# EAGLE library part ATTINY45 (library 01_fab)
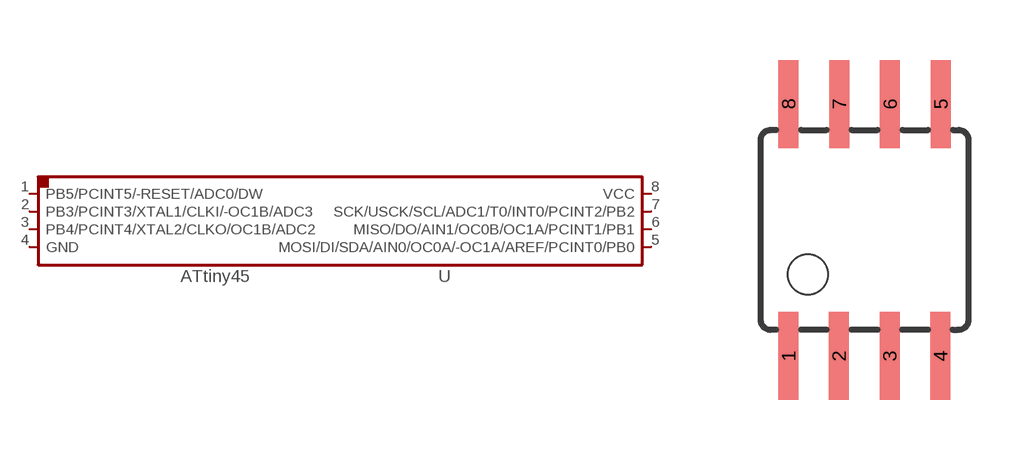
[diagram p2: symbol with the pads of SOIC8; footprint SOIC8]

Designator prefix -

## ATTINY45SI  [SOIC8]
1  PB5/PCINT5/-RESET/ADC0/DW
2  PB3/PCINT3/XTAL1/CLKI/-OC1B/ADC3
3  PB4/PCINT4/XTAL2/CLKO/OC1B/ADC2
4  GND
5  MOSI/DI/SDA/AIN0/OC0A/-OC1A/AREF/PCINT0/PB0
6  MISO/DO/AIN1/OC0B/OC1A/PCINT1/PB1
7  SCK/USCK/SCL/ADC1/T0/INT0/PCINT2/PB2
8  VCC

## Footprint SOIC8 (pad centres in mm)
Wide Plastic Gull Wing Small Outline Package
smd 0.5 x 2.2: 1 -1.905,-3.154; 2 -0.645,-3.154; 3 0.625,-3.154; 4 1.895,-3.154; 5 1.905,3.154; 6 0.635,3.154; 7 -0.635,3.154; 8 -1.905,3.154